# Altium footprint library DIOM5026X229N.PcbLib: 1 footprints
Each footprint in its own frame and in the unit in brackets; x right, y up, seen from the top. Pads: shape width x height; smd on the part's side, far side on the other; paste and mask are expansions set on the pad; w line width, h text height; cw(c..) or ccw(c..) is an arc to the next point about the centre after c.
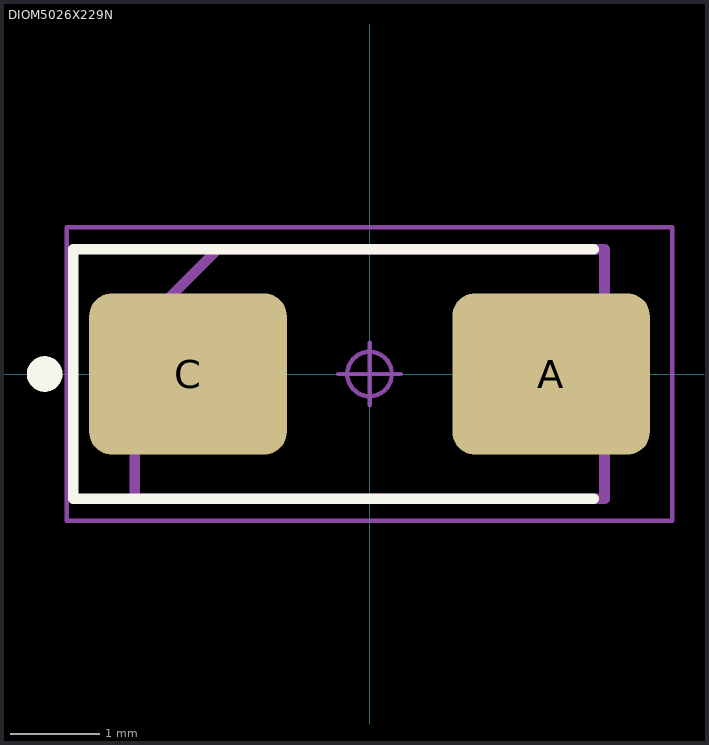
[diagram p0: the footprint, top view; thin cyan lines are the x and y axes]

## DIOM5026X229N [mm] "Diode, Molded Body; 5.04 mm L X 2.595 mm W X 2.29 mm H body"
height 2.29
pads (2):
  rrect28% 2.22x1.81 smd: A(2.04,0) C(-2.04,0)
Top Overlay:
  circle w0.2: c-3.65,0 r0.1
  lines w0.12: 2.52,-1.4 -3.33,-1.4 -3.33,1.4 2.52,1.4
Fab - Detail1, HDI1:
  lines w0.12: -2.64,-1.4 2.64,-1.4 2.64,1.4 -1.707,1.4 -2.64,0.467 -2.64,-1.4
Courtyards/Models - Top:
  circle w0.05: c0,0 r0.25
  lines w0.05: -0.35,0 0.35,0 ; 0,-0.35 0,0.35 ; -3.4,-1.65 3.4,-1.65 3.4,1.65 -3.4,1.65 -3.4,-1.65
3D body "DIOM5528X26.step": height 2.6, standoff 0.03, extent -2.75,-1.4 2.75,1.4